# EAGLE library part TPS2113APW (library TPS2113APW)
Check availability <https://pricing.snapeda.com/parts/TPS2113APW/Texas%20Instruments/view-part?ref=eda>
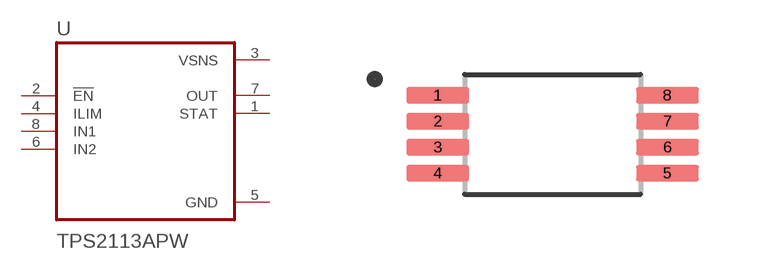
[diagram p0: symbol with the pads of SOP65P640X120-8N; footprint SOP65P640X120-8N]

Designator prefix U

## TPS2113APW (Availability: In Stock; Description: 2.8-V to 5.5-V, 84-m&Omega;, 1.25-A, power mux with automatic switchover and status output; MF: Texas Instruments; MP: TPS2113APW; Package: TSSOP-8 Texas Instruments; Price: None; Purchase-URL: https://pricing.snapeda.com/search/part/TPS2113APW/?ref=eda)  [SOP65P640X120-8N]
1  STAT  out
2  !EN  in
3  VSNS  pwr
4  ILIM  in
5  GND  pwr
6  IN2  in
7  OUT  out
8  IN1  in

## Footprint SOP65P640X120-8N (pad centres in mm)
smd 1.57 x 0.41: 1 -2.87,0.975; 2 -2.87,0.325; 3 -2.87,-0.325; 4 -2.87,-0.975; 5 2.87,-0.975; 6 2.87,-0.325; 7 2.87,0.325; 8 2.87,0.975